# Altium schematic symbol library TPS386000_RGP_20.SchLib: 2 symbols
Pins are listed as number, name and electrical type; pins without a type are passive.

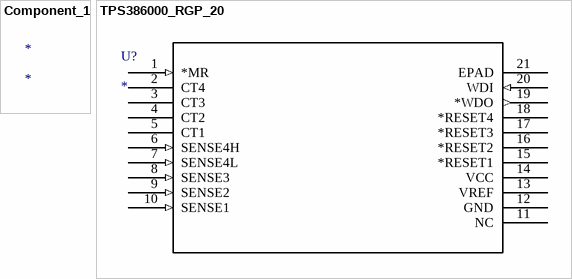
[diagram p0: symbols Component_1 to TPS386000_RGP_20]

## Component_1
designator *

## TPS386000_RGP_20
designator U?
Imported; Manufacturer_Part_Number: tps386000_rgp_20; GENERIC_PART_NUMBER: TPS386000; Vendor: Texas Instruments; PACKAGE_DESIGNATOR: RGP; PIN_COUNT: 20; FAMILY_NAME: SUPERVISOR AND RESET IC; INDUSTRY_STD_PKG_TYPE: QFN; Datasheet URL: http://www.ti.com/lit/gpn/TPS386000; Manufacturer: Texas Instruments; RefDes: RefDes; Type: DEV; Value: Value
footprint RGP20_2P15X2P15
pins: 1 *MR (in), 2 CT4, 3 CT3, 4 CT2, 5 CT1, 6 SENSE4H (in), 7 SENSE4L (in), 8 SENSE3 (in), 9 SENSE2 (in), 10 SENSE1 (in), 11 NC, 12 GND (power), 13 VREF (power), 14 VCC (power), 15 *RESET1, 16 *RESET2, 17 *RESET3, 18 *RESET4, 19 *WDO (out), 20 WDI (in), 21 EPAD